# EAGLE library part 09221326922 (library 09221326922)
DIN 2B male straight 32pin, PL2 Source: Datasheet <https://b2b.harting.com/files/download/PRD/PDF_DS/PDF_DS_09031200201.pdf>
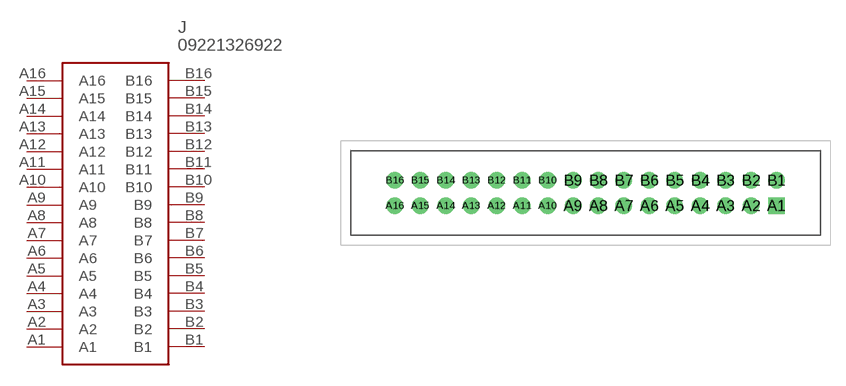
[diagram p0: symbol with the pads of 09221326922; footprint 09221326922]

Designator prefix J

## 09221326922 (Description: DIN 2B male straight 32pin, PL2; Height: 10.2mm; Manufacturer_Name: HARTING; Manufacturer_Part_Number: 09221326922; Mouser_Part_Number: 617-09221326922; Mouser_Price-Stock: https://www.mouser.co.uk/ProductDetail/HARTING/09221326922?qs=Afqhj6cPmO%252B%2FNhXYLDucCw%3D%3D)  [09221326922]
A1  A1
A2  A2
A3  A3
A4  A4
A5  A5
A6  A6
A7  A7
A8  A8
A9  A9
A10  A10
A11  A11
A12  A12
A13  A13
A14  A14
A15  A15
A16  A16
B1  B1
B2  B2
B3  B3
B4  B4
B5  B5
B6  B6
B7  B7
B8  B8
B9  B9
B10  B10
B11  B11
B12  B12
B13  B13
B14  B14
B15  B15
B16  B16

## Footprint 09221326922 (pad centres in mm)
09221326922-2
drill 1.11 pad 1.665 square: A1 0,0
drill 1.1 pad 1.65: A2 -2.54,0; A3 -5.08,0; A4 -7.62,0; A5 -10.16,0; A6 -12.7,0; A7 -15.24,0; A8 -17.78,0; A9 -20.32,0; A10 -22.86,0; A11 -25.4,0; A12 -27.94,0; A13 -30.48,0; A14 -33.02,0; A15 -35.56,0; A16 -38.1,0; B1 0,2.54; B2 -2.54,2.54; B3 -5.08,2.54; B4 -7.62,2.54; B5 -10.16,2.54; B6 -12.7,2.54; B7 -15.24,2.54; B8 -17.78,2.54; B9 -20.32,2.54; B10 -22.86,2.54; B11 -25.4,2.54; B12 -27.94,2.54; B13 -30.48,2.54; B14 -33.02,2.54; B15 -35.56,2.54; B16 -38.1,2.54